# Altium schematic symbol library 5.5_MIPI_LCD.SCHLIB: 9 symbols
Pins are listed as number, name and electrical type; pins without a type are passive.

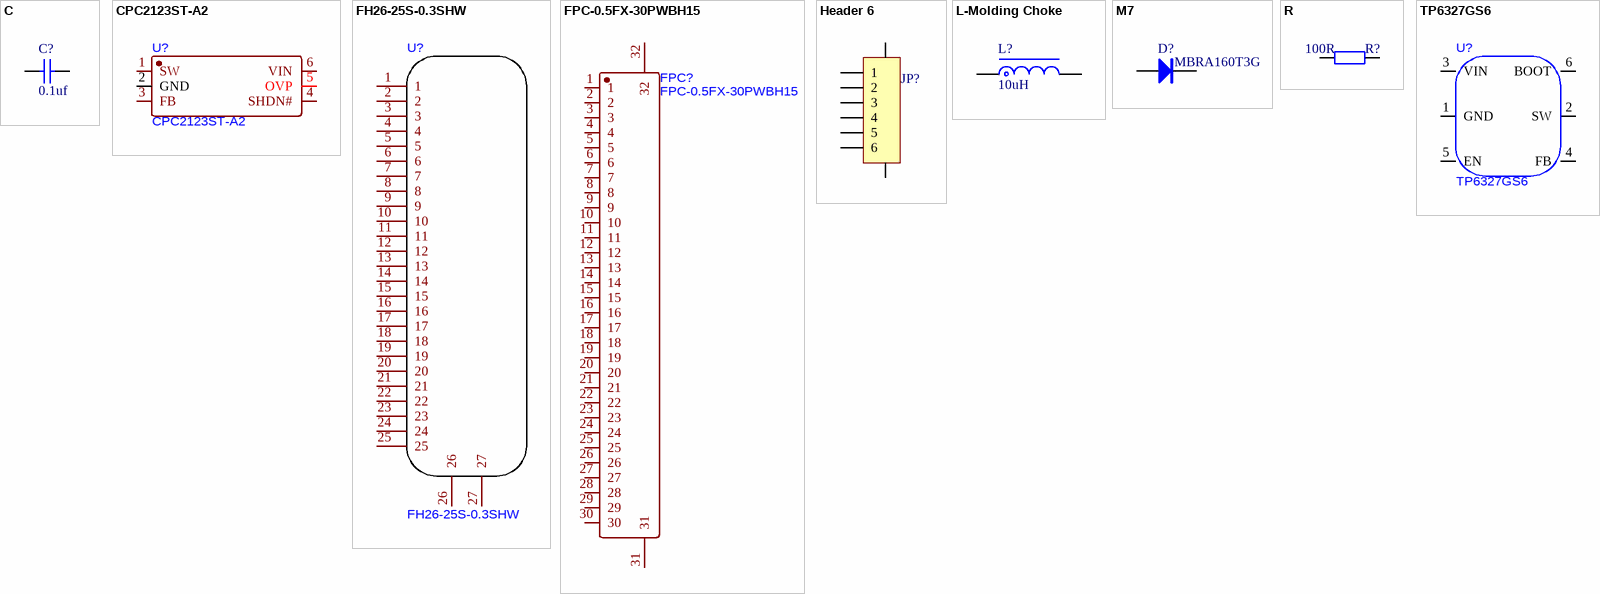
[diagram p0: symbols C to TP6327GS6]

## C
designator C?, comment 0.1uf
贴片电容/MLCC电容
footprint C0402_L (贴片MLCC电容)
footprint C0603_L (贴片MLCC电容)
pins: 1, 2

## CPC2123ST-A2
designator U?
footprint SOT-23-6_L2.9-W1.6-P0.95-LS2.8-BR
pins: 1 SW, 2 GND, 3 FB, 4 SHDN#, 5 OVP, 6 VIN

## FH26-25S-0.3SHW
designator U?
footprint CONN-25PIN-FH26-25S-0.3SHW
pins: 1, 2, 3, 4, 5, 6, 7, 8, 9, 10, 11, 12, 13, 14, 15, 16, 17, 18, 19, 20, 21, 22, 23, 24, 25, 26, 27

## FPC-0.5FX-30PWBH15
designator FPC?
footprint FPC-SMD_30P-P0.50_FPC-0.5FX-30PWBH15
pins: 1, 2, 3, 4, 5, 6, 7, 8, 9, 10, 11, 12, 13, 14, 15, 16, 17, 18, 19, 20, 21, 22, 23, 24, 25, 26, 27, 28, 29, 30, 31, 32

## Header 6
designator JP?, comment CON-6P  (value not drawn)
6P连接器
footprint FPC0.5-WT-6P (长：7.2mm，宽：5.2mm，高：2mm)
pins: 0, 0, 1, 2, 3, 4, 5, 6

## L-Molding Choke
designator L?, comment 10uH
一体成型电感
footprint L-SMD-0420
pins: 1, 2

## M7
designator D?, comment MBRA160T3G
整流二极管
footprint SMA (4.5x2.6*2.2mm（长宽高，不包括引脚）)
pins: 1 A, 2 K

## R
designator R?, comment 100R
贴片电阻
footprint R0402_L (1/16W贴片电阻)
footprint R0603_L (1/10W贴片电阻)
pins: 1, 2

## TP6327GS6
designator U?
footprint SOT23_6
pins: 1 GND, 2 SW, 3 VIN, 4 FB, 5 EN, 6 BOOT